# Altium footprint library SHUIHU.PcbLib: 14 footprints
Each footprint in its own frame and in the unit in brackets; x right, y up, seen from the top. Pads: shape width x height; smd on the part's side, far side on the other; paste and mask are expansions set on the pad; w line width, h text height; cw(c..) or ccw(c..) is an arc to the next point about the centre after c.
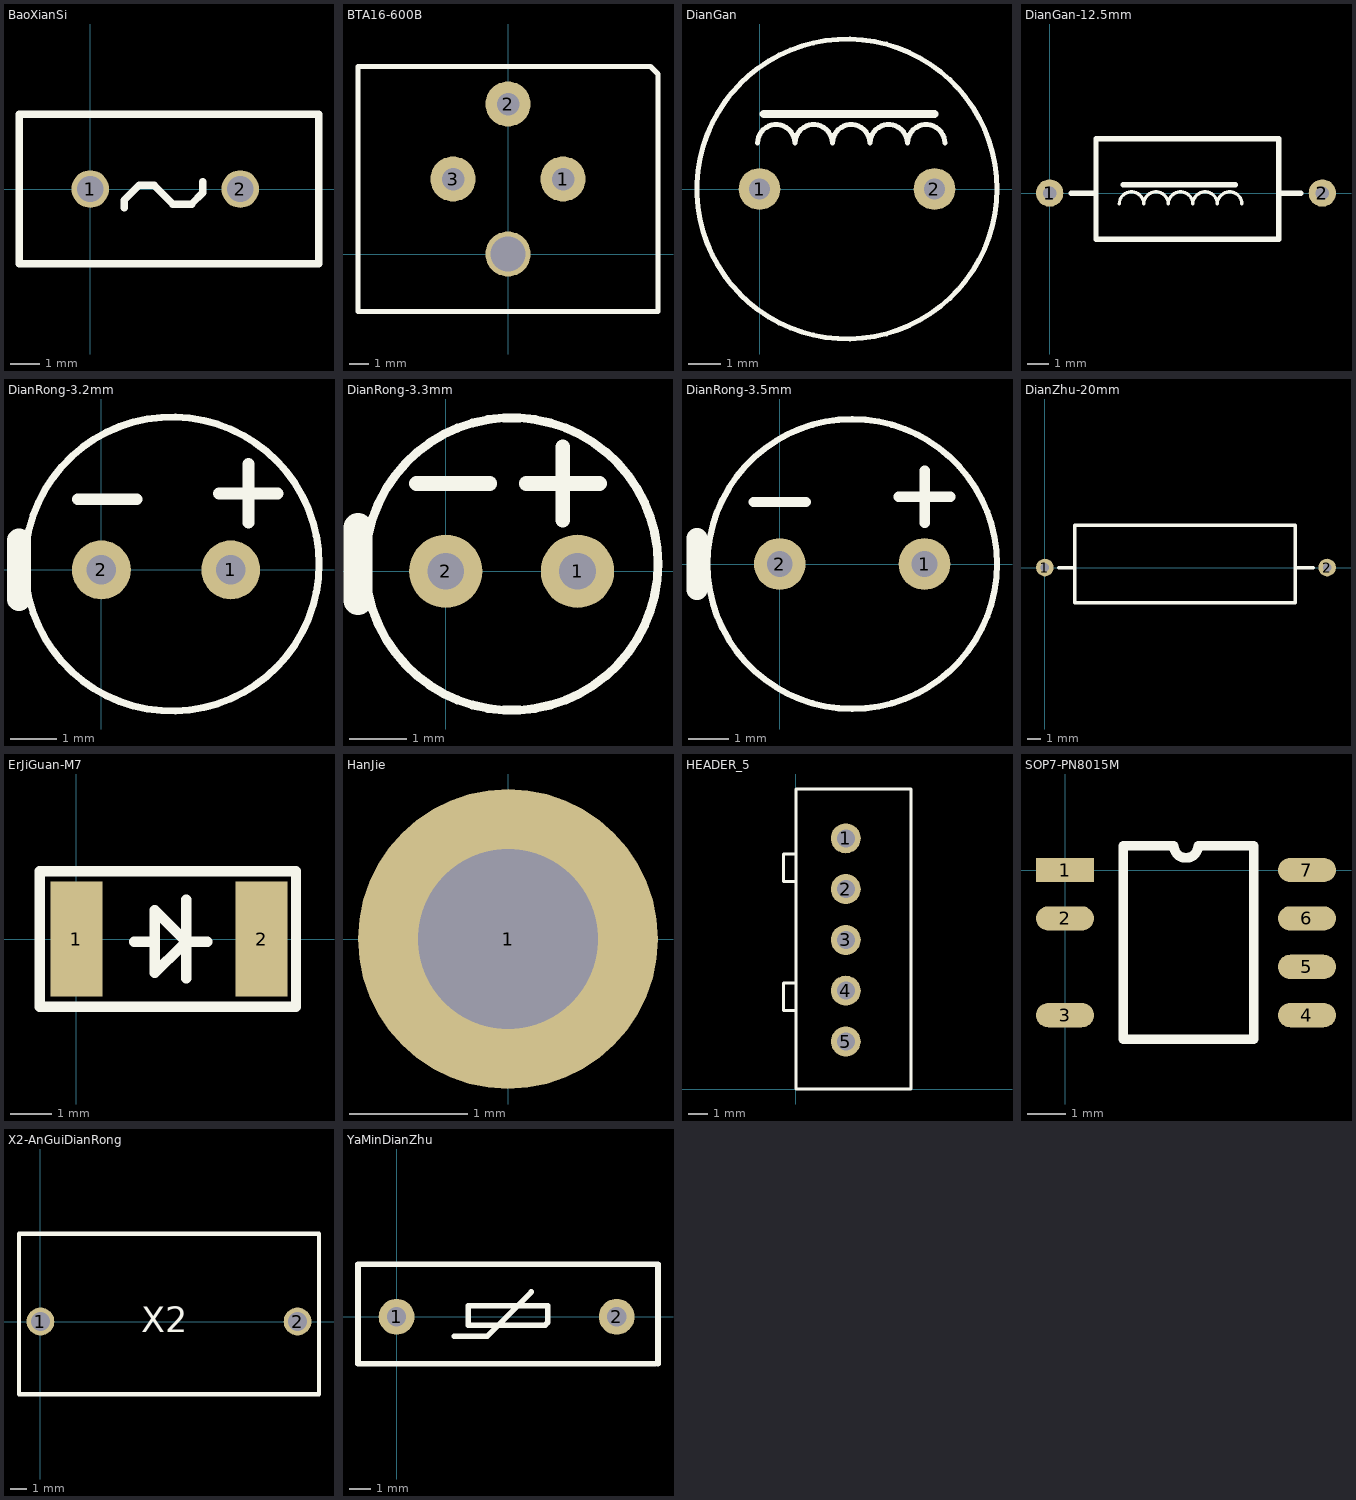
[diagram p0: the footprints below, top view; thin cyan lines are the x and y axes]

## BaoXianSi [mil]
pads (2):
  round 50 hole 35: 1(0,0) 2(200,0)
Top Overlay:
  lines w10: 45,-25 45,-15 65,5 85,5 110,-20 135,-20 150,-5 150,10 ; -95,-100 -95,100 305,100 305,-100 -95,-100

## BTA16-600B [mil]
pads (4):
  round 90 hole 45: 1(110,150) 2(0,300) 3(-110,150)
  round 90 hole 70: ""(0,0)
Top Overlay:
  lines w10: 300,270 300,360 285,375 -300,375 -300,-115 300,-115 300,285

## DianGan [mil]
pads (2):
  round 50 hole 25: 1(0,0) 2(210,0)
Top Overlay:
  circle w6: c105,0 r180
  lines w6: -2.36,55 cw(c20,55) 42.36,55 ; 42.64,55 cw(c65,55) 87.36,55 ; 87.64,55 cw(c110,55) 132.36,55 ; 132.64,55 cw(c155,55) 177.36,55 ; 177.64,55 cw(c200,55) 222.36,55
  lines w10: 5,90 210,90

## DianGan-12.5mm [mil]
pads (2):
  round 50 hole 25: 1(0,0) 2(500,0)
Top Overlay:
  lines w6: 127.64,-20 cw(c150,-20) 172.36,-20 ; 172.64,-20 cw(c195,-20) 217.36,-20 ; 217.64,-20 cw(c240,-20) 262.36,-20 ; 262.64,-20 cw(c285,-20) 307.36,-20 ; 307.64,-20 cw(c330,-20) 352.36,-20
  lines w10: 40,0 80,0 ; 85,99 85,-85 420,-85 420,100 85,100 ; 135,15 340,15 ; 420,0 460,0

## DianRong-3.2mm [mil]
pads (2):
  round 50 hole 25: 1(110,0) 2(0,0)
Top Overlay:
  circle w6: c60,5 r125
  lines w10: -20,60 30,60 ; 100,65 150,65 ; 125,40 125,90
  lines w20: -70,-25 -70,25

## DianRong-3.3mm [mil]
pads (2):
  round 50 hole 25: 1(90,0) 2(0,0)
Top Overlay:
  circle w6: c45,5 r100
  lines w10: -20,60 30,60 ; 55,60 105,60 ; 80,35 80,85
  lines w20: -60,-20 -60,30

## DianRong-3.5mm [mil]
pads (2):
  round 50 hole 25: 1(140,0) 2(0,0)
Top Overlay:
  circle w6: c70,0 r140
  lines w10: -25,60 25,60 ; 115,65 165,65 ; 140,40 140,90
  lines w20: -80,-25 -80,25

## DianZhu-20mm [mil]
pads (2):
  round 50 hole 25: 1(0,0) 2(800,0)
Top Overlay:
  lines w10: 40,0 80,0 ; 710,0 760,0 ; 85,-100 710,-100 710,120 85,120 85,-100

## ErJiGuan-M7 [mil]
pads (2):
  rect 50x110 smd: 1(0,0) 2(177,0)
Top Overlay:
  lines w10: 55,-2.5 75,-2.5 ; 105,-37.5 105,37.5 ; 125,-2.5 105,-2.5 ; 105,-2.5 100,-7.5 75,-32.5 75,27.5 105,-2.5 ; -35,-65 210,-65 210,65 -35,65 -35,-65

## HanJie [mil]
pads (1):
  round 100 hole 60: 1(0,0)

## HEADER_5 [mil]
pads (5):
  round 60 hole 36: 1(100,501.4) 2(100,399.8) 3(100,298.2) 4(100,196.6) 5(100,95)
Top Overlay:
  lines w6: 0,157.5 -25,157.5 -25,212.5 0,212.5 ; 0,415 -25,415 -25,470 0,470 ; 0,0 0,600 230,600 230,0 0,0

## SOP7-PN8015M [mil]
pads (7):
  rect 60x25 smd: 1(0,0)
  oval 60x25 smd: 2(0,-50) 3(0,-150) 4(250,-150) 5(250,-100) 6(250,-50) 7(250,0)
Top Overlay:
  lines w10: 60,-175 195,-175 195,25 137.5,25 cw(c125,25) 112.5,25 60,25 60,-175

## X2-AnGuiDianRong [mil]
pads (2):
  round 65 hole 45: 1(0,0) 2(600,0)
Top Overlay:
  lines w10: -50,-170 650,-170 650,205 -50,205 -50,-170
  text "X2" at 235,-25 h60

## YaMinDianZhu [mil]
pads (2):
  round 65 hole 35: 1(0,0) 2(400,0)
Top Overlay:
  lines w10: 105,-35 165,-35 245,45 ; 470,-85 -70,-85 -70,95 475,95 475,-85 ; 130,-15 130,20 275,20 275,-10 270,-15 130,-15